# Altium schematic symbol library RES_ARRAY.SchLib: 1 symbol
Pins are listed as number, name and electrical type; pins without a type are passive.

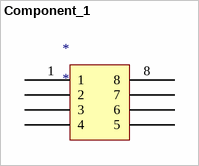
[diagram p0: symbol Component_1]

## Component_1
designator *
footprint Quad 4 res array
pins: 1, 2, 3, 4, 5, 6, 7, 8